# Altium schematic symbol library Op Ampm.SchLib: 4 symbols
Pins are listed as number, name and electrical type; pins without a type are passive.

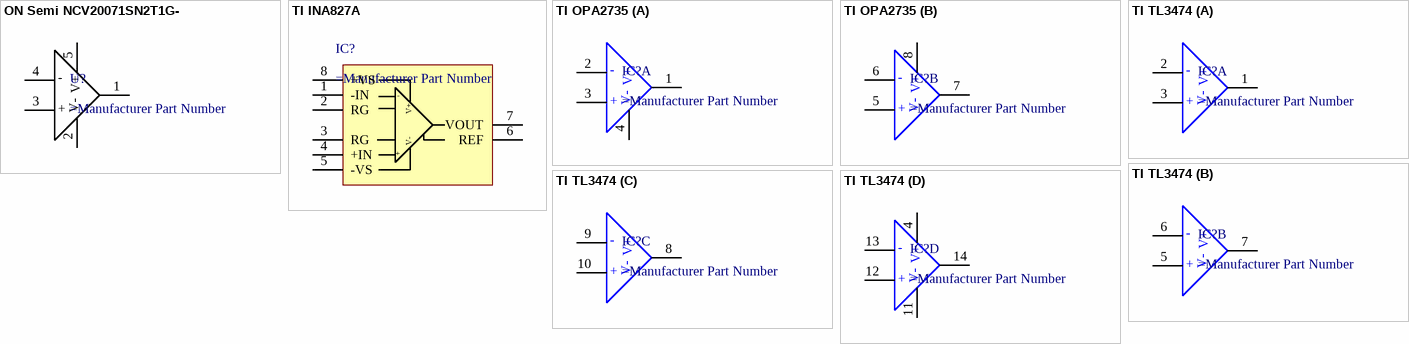
[diagram p0: symbols ON Semi NCV20071SN2T1G- to TI TL3474]

## ON Semi NCV20071SN2T1G-
designator U?
0.05µV/°C max, SINGLE-SUPPLY CMOS  OPERATIONAL AMPLIFIERS  Zer∅-Drift Series; Manufacturer: ON Semiconductor; MPN: NCV20071SN2T1G; Amplifier Type: General Purpose; Output Type: Rail-to-Rail; Current - Supply: 465µA; Voltage - Supply, Single/Dual (±): 2.7 V ~ 12 V, ±1.35 V ~ 6 V; Slew Rate: 2.4 V/µs; Gain Bandwidth Product: 3.2MHz; Current - Input Bias: 2nA; Voltage - Input Offset: 1.3mV; RoHS: RoHS Compliant; Category: Integrated Circuits (ICs); Stock 1: 4931; Pricing: 1=0.68, 10=0.595, 100=0.456, 500=0.3605, 1000=0.2884 (USD); Packaging: Cut Tape (CT); Part Status: Active; Operating Temperature: -40°C ~ 85°C; Mounting Type: Surface Mount; Package / Case: SOT-23-5 Thin, TSOT-23-5; Supplier Device Package: 5-TSOP; Base Part Number: NCV20071; ComponentLink1URL: http://www.onsemi.com/pub/Collateral/NCS20071-D.PDF; ComponentLink1Description: http://www.onsemi.com/pub/Collateral/NCS20071-D.PDF; Supplier 1: Digi-Key; Supplier Part Number 1: 863-NCV20071SN2T1G; Price: 0,68
footprint ATMEL SO-8 S8S1 (SOIC, 8-Leads, Body 4.89x3.90mm, Pitch 1.27mm, IPC Medium Density)
pins: 1, 2, 3, 4, 5
text: -; V+; V-; +

## TI INA827A
designator IC?
INA827 Wide Supply Range, Rail-to-Rail Output Instrumentation Amplifier With a Minimum Gain of 5
footprint TI VSSOP-8
pins: 1 -IN, 2 RG, 3 RG, 4 +IN, 5 -VS, 6 REF, 7 VOUT, 8 +VS
text: -; V+; V-; +

## TI OPA2735
designator IC?
0.05µV/°C max, SINGLE-SUPPLY CMOS  OPERATIONAL AMPLIFIERS  Zer∅-Drift Series; ComponentLink1URL: http://www.ti.com/lit/ds/symlink/opa734.pdf; ComponentLink1Description: http://www.ti.com/lit/ds/symlink/opa734.pdf
footprint ATMEL SO-8 S8S1 (SOIC, 8-Leads, Body 4.89x3.90mm, Pitch 1.27mm, IPC Medium Density)
part A pins: 1, 2, 3, 4
part B pins: 5, 6, 7, 8
part A text: -; V+; V-; +
part B text: -; V+; V-; +

## TI TL3474
designator IC?
High slew rate, single supply op amp
footprint TI HTSSOP-14 PWP (HTSSOP, 14-Leads, Body 5.00x4.40mm, Pitch 0.65mm, Thermal Pad 3.10x3.00mm, IPC Medium Density)
part A pins: 1 OUT1, 2 IN1-, 3 IN1+
part B pins: 5 IN2+, 6 IN2-, 7 OUT2
part C pins: 8 OUT3, 9 IN3-, 10 IN3+
part D pins: 4, 11, 12 IN4+, 13 IN4-, 14 OUT4
part A text: -; V+; V-; +
part B text: -; V+; V-; +
part C text: -; V+; V-; +
part D text: -; V+; V-; +